# Altium integrated library NSC Interface MOSFET Driver.IntLib: 14 symbols
Pins are listed as number, name and electrical type; pins without a type are passive.

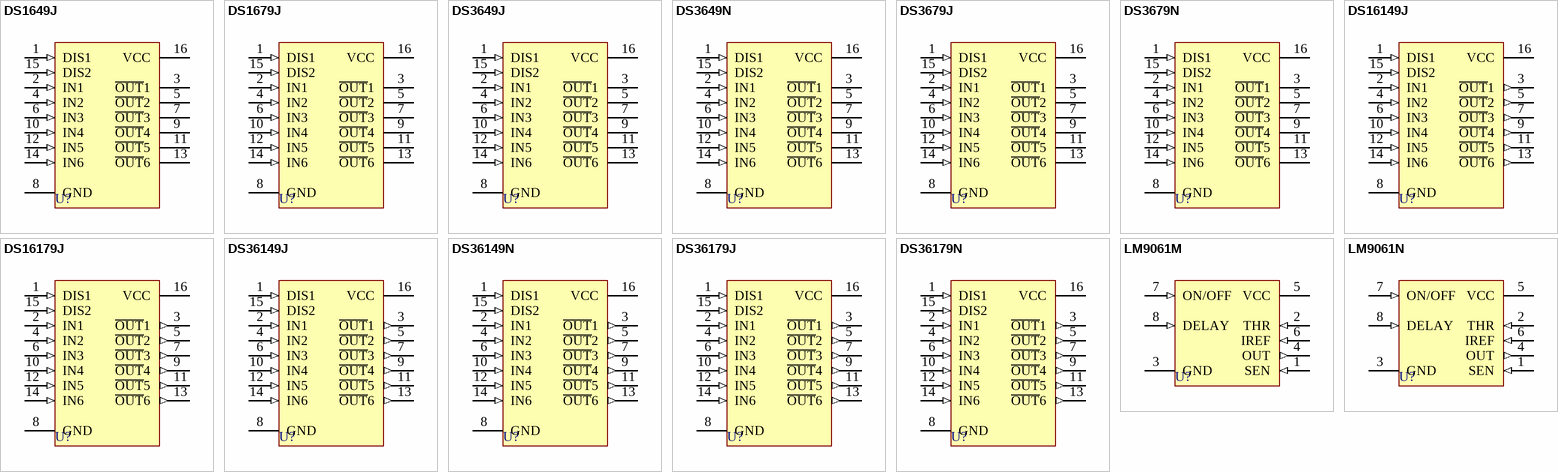
[diagram p0: symbols DS1649J to LM9061N]

## DS1649J
designator U?
Hex Tri-State TTL to MOS Driver; Published: 15-Apr-2002; LatestRevisionDate: 06-Jun-2005; LatestRevisionNote: Stylized 3D Model Added.; DatasheetVersion: Mar-1986; PackageVersion: 2000; PackageReference: J16A; Publisher: Altium Limited; PackageDescription: DIP; 16 Leads; Row Spacing 7.62 mm; Pitch 2.54 mm; ComponentLink1Description: Manufacturer Link; ComponentLink1URL: http://www.national.com/; ComponentLink2Description: Datasheet; ComponentLink2URL: http://www.national.com/ds.cgi/DS/DS1649.pdf; ComponentLink3Description: URL Link1; ComponentLink3URL: http://www.national.com/pf/DS/DS1649.html
footprint J16A (DIP; 16 Leads; Row Spacing 7.62 mm; Pitch 2.54 mm)
3D model J16A (DIP; 16 Leads; Row Spacing 7.62 mm; Pitch 2.54 mm)
pins: 1 DIS1 (in), 2 IN1 (in), 3 ~{OUT}1 (hiz), 4 IN2 (in), 5 ~{OUT}2 (hiz), 6 IN3 (in), 7 ~{OUT}3 (hiz), 8 GND (power), 9 ~{OUT}4 (hiz), 10 IN4 (in), 11 ~{OUT}5 (hiz), 12 IN5 (in), 13 ~{OUT}6 (hiz), 14 IN6 (in), 15 DIS2 (in), 16 VCC (power)

## DS1679J
designator U?
Hex Tri-State TTL to MOS Driver; Published: 15-Apr-2002; LatestRevisionDate: 06-Jun-2005; LatestRevisionNote: Stylized 3D Model Added.; DatasheetVersion: Mar-1986; PackageVersion: 2000; PackageReference: J16A; Publisher: Altium Limited; PackageDescription: DIP; 16 Leads; Row Spacing 7.62 mm; Pitch 2.54 mm; ComponentLink1Description: Manufacturer Link; ComponentLink1URL: http://www.national.com/; ComponentLink2Description: Datasheet; ComponentLink2URL: http://www.national.com/ds.cgi/DS/DS1649.pdf; ComponentLink3Description: URL Link1; ComponentLink3URL: http://www.national.com/pf/DS/DS1679.html
footprint J16A (DIP; 16 Leads; Row Spacing 7.62 mm; Pitch 2.54 mm)
3D model J16A (DIP; 16 Leads; Row Spacing 7.62 mm; Pitch 2.54 mm)
pins: 1 DIS1 (in), 2 IN1 (in), 3 ~{OUT}1 (hiz), 4 IN2 (in), 5 ~{OUT}2 (hiz), 6 IN3 (in), 7 ~{OUT}3 (hiz), 8 GND (power), 9 ~{OUT}4 (hiz), 10 IN4 (in), 11 ~{OUT}5 (hiz), 12 IN5 (in), 13 ~{OUT}6 (hiz), 14 IN6 (in), 15 DIS2 (in), 16 VCC (power)

## DS3649J
designator U?
Hex Tri-State TTL to MOS Driver; Published: 15-Apr-2002; LatestRevisionDate: 06-Jun-2005; LatestRevisionNote: Stylized 3D Model Added.; DatasheetVersion: Mar-1986; PackageVersion: 2000; PackageReference: J16A; Publisher: Altium Limited; PackageDescription: DIP; 16 Leads; Row Spacing 7.62 mm; Pitch 2.54 mm; ComponentLink1Description: Manufacturer Link; ComponentLink1URL: http://www.national.com/; ComponentLink2Description: Datasheet; ComponentLink2URL: http://www.national.com/ds.cgi/DS/DS1649.pdf; ComponentLink3Description: URL Link1; ComponentLink3URL: http://www.national.com/pf/DS/DS3649.html
footprint J16A (DIP; 16 Leads; Row Spacing 7.62 mm; Pitch 2.54 mm)
3D model J16A (DIP; 16 Leads; Row Spacing 7.62 mm; Pitch 2.54 mm)
pins: 1 DIS1 (in), 2 IN1 (in), 3 ~{OUT}1 (hiz), 4 IN2 (in), 5 ~{OUT}2 (hiz), 6 IN3 (in), 7 ~{OUT}3 (hiz), 8 GND (power), 9 ~{OUT}4 (hiz), 10 IN4 (in), 11 ~{OUT}5 (hiz), 12 IN5 (in), 13 ~{OUT}6 (hiz), 14 IN6 (in), 15 DIS2 (in), 16 VCC (power)

## DS3649N
designator U?
Hex Tri-State TTL to MOS Driver; Published: 15-Apr-2002; LatestRevisionDate: 06-Jun-2005; LatestRevisionNote: Stylized 3D Model Added.; DatasheetVersion: Mar-1986; PackageVersion: 2000; PackageReference: N16A; Publisher: Altium Limited; PackageDescription: DIP; 16 Leads; Row Spacing 7.62 mm; Pitch 2.54 mm; ComponentLink1Description: Manufacturer Link; ComponentLink1URL: http://www.national.com/; ComponentLink2Description: Datasheet; ComponentLink2URL: http://www.national.com/ds.cgi/DS/DS1649.pdf; ComponentLink3Description: URL Link1; ComponentLink3URL: http://www.national.com/pf/DS/DS3649.html
footprint N16A (DIP; 16 Leads; Row Spacing 7.62 mm; Pitch 2.54 mm)
3D model N16A (DIP; 16 Leads; Row Spacing 7.62 mm; Pitch 2.54 mm)
pins: 1 DIS1 (in), 2 IN1 (in), 3 ~{OUT}1 (hiz), 4 IN2 (in), 5 ~{OUT}2 (hiz), 6 IN3 (in), 7 ~{OUT}3 (hiz), 8 GND (power), 9 ~{OUT}4 (hiz), 10 IN4 (in), 11 ~{OUT}5 (hiz), 12 IN5 (in), 13 ~{OUT}6 (hiz), 14 IN6 (in), 15 DIS2 (in), 16 VCC (power)

## DS3679J
designator U?
Hex Tri-State TTL to MOS Driver; Published: 15-Apr-2002; LatestRevisionDate: 06-Jun-2005; LatestRevisionNote: Stylized 3D Model Added.; DatasheetVersion: Mar-1986; PackageVersion: 2000; PackageReference: J16A; Publisher: Altium Limited; PackageDescription: DIP; 16 Leads; Row Spacing 7.62 mm; Pitch 2.54 mm; ComponentLink1Description: Manufacturer Link; ComponentLink1URL: http://www.national.com/; ComponentLink2Description: Datasheet; ComponentLink2URL: http://www.national.com/ds.cgi/DS/DS1649.pdf; ComponentLink3Description: URL Link1; ComponentLink3URL: http://www.national.com/pf/DS/DS3679.html
footprint J16A (DIP; 16 Leads; Row Spacing 7.62 mm; Pitch 2.54 mm)
3D model J16A (DIP; 16 Leads; Row Spacing 7.62 mm; Pitch 2.54 mm)
pins: 1 DIS1 (in), 2 IN1 (in), 3 ~{OUT}1 (hiz), 4 IN2 (in), 5 ~{OUT}2 (hiz), 6 IN3 (in), 7 ~{OUT}3 (hiz), 8 GND (power), 9 ~{OUT}4 (hiz), 10 IN4 (in), 11 ~{OUT}5 (hiz), 12 IN5 (in), 13 ~{OUT}6 (hiz), 14 IN6 (in), 15 DIS2 (in), 16 VCC (power)

## DS3679N
designator U?
Hex Tri-State TTL to MOS Driver; Published: 15-Apr-2002; LatestRevisionDate: 06-Jun-2005; LatestRevisionNote: Stylized 3D Model Added.; DatasheetVersion: Mar-1986; PackageVersion: 2000; PackageReference: N16A; Publisher: Altium Limited; PackageDescription: DIP; 16 Leads; Row Spacing 7.62 mm; Pitch 2.54 mm; ComponentLink1Description: Manufacturer Link; ComponentLink1URL: http://www.national.com/; ComponentLink2Description: Datasheet; ComponentLink2URL: http://www.national.com/ds.cgi/DS/DS1649.pdf; ComponentLink3Description: URL Link1; ComponentLink3URL: http://www.national.com/pf/DS/DS3679.html
footprint N16A (DIP; 16 Leads; Row Spacing 7.62 mm; Pitch 2.54 mm)
3D model N16A (DIP; 16 Leads; Row Spacing 7.62 mm; Pitch 2.54 mm)
pins: 1 DIS1 (in), 2 IN1 (in), 3 ~{OUT}1 (hiz), 4 IN2 (in), 5 ~{OUT}2 (hiz), 6 IN3 (in), 7 ~{OUT}3 (hiz), 8 GND (power), 9 ~{OUT}4 (hiz), 10 IN4 (in), 11 ~{OUT}5 (hiz), 12 IN5 (in), 13 ~{OUT}6 (hiz), 14 IN6 (in), 15 DIS2 (in), 16 VCC (power)

## DS16149J
designator U?
Hex MOS Driver; Published: 15-Apr-2002; LatestRevisionDate: 06-Jun-2005; LatestRevisionNote: Stylized 3D Model Added.; DatasheetVersion: Feb-1986; PackageVersion: 2000; PackageReference: J16A; Publisher: Altium Limited; PackageDescription: DIP; 16 Leads; Row Spacing 7.62 mm; Pitch 2.54 mm; ComponentLink1Description: Manufacturer Link; ComponentLink1URL: http://www.national.com/; ComponentLink2Description: Datasheet; ComponentLink2URL: http://www.national.com/ds.cgi/DS/DS16149.pdf; ComponentLink3Description: URL Link1; ComponentLink3URL: http://www.national.com/pf/DS/DS16149.html
footprint J16A (DIP; 16 Leads; Row Spacing 7.62 mm; Pitch 2.54 mm)
3D model J16A (DIP; 16 Leads; Row Spacing 7.62 mm; Pitch 2.54 mm)
pins: 1 DIS1 (in), 2 IN1 (in), 3 ~{OUT}1 (out), 4 IN2 (in), 5 ~{OUT}2 (out), 6 IN3 (in), 7 ~{OUT}3 (out), 8 GND (power), 9 ~{OUT}4 (out), 10 IN4 (in), 11 ~{OUT}5 (out), 12 IN5 (in), 13 ~{OUT}6 (out), 14 IN6 (in), 15 DIS2 (in), 16 VCC (power)

## DS16179J
designator U?
Hex MOS Driver; Published: 15-Apr-2002; LatestRevisionDate: 06-Jun-2005; LatestRevisionNote: Stylized 3D Model Added.; DatasheetVersion: Feb-1986; PackageVersion: 2000; PackageReference: J16A; Publisher: Altium Limited; PackageDescription: DIP; 16 Leads; Row Spacing 7.62 mm; Pitch 2.54 mm; ComponentLink1Description: Manufacturer Link; ComponentLink1URL: http://www.national.com/; ComponentLink2Description: Datasheet; ComponentLink2URL: http://www.national.com/ds.cgi/DS/DS16149.pdf; ComponentLink3Description: URL Link1; ComponentLink3URL: http://www.national.com/pf/DS/DS16179.html
footprint J16A (DIP; 16 Leads; Row Spacing 7.62 mm; Pitch 2.54 mm)
3D model J16A (DIP; 16 Leads; Row Spacing 7.62 mm; Pitch 2.54 mm)
pins: 1 DIS1 (in), 2 IN1 (in), 3 ~{OUT}1 (out), 4 IN2 (in), 5 ~{OUT}2 (out), 6 IN3 (in), 7 ~{OUT}3 (out), 8 GND (power), 9 ~{OUT}4 (out), 10 IN4 (in), 11 ~{OUT}5 (out), 12 IN5 (in), 13 ~{OUT}6 (out), 14 IN6 (in), 15 DIS2 (in), 16 VCC (power)

## DS36149J
designator U?
Hex MOS Driver; Published: 15-Apr-2002; LatestRevisionDate: 06-Jun-2005; LatestRevisionNote: Stylized 3D Model Added.; DatasheetVersion: Feb-1986; PackageVersion: 2000; PackageReference: J16A; Publisher: Altium Limited; PackageDescription: DIP; 16 Leads; Row Spacing 7.62 mm; Pitch 2.54 mm; ComponentLink1Description: Manufacturer Link; ComponentLink1URL: http://www.national.com/; ComponentLink2Description: Datasheet; ComponentLink2URL: http://www.national.com/ds.cgi/DS/DS16149.pdf; ComponentLink3Description: URL Link1; ComponentLink3URL: http://www.national.com/pf/DS/DS36149.html
footprint J16A (DIP; 16 Leads; Row Spacing 7.62 mm; Pitch 2.54 mm)
3D model J16A (DIP; 16 Leads; Row Spacing 7.62 mm; Pitch 2.54 mm)
pins: 1 DIS1 (in), 2 IN1 (in), 3 ~{OUT}1 (out), 4 IN2 (in), 5 ~{OUT}2 (out), 6 IN3 (in), 7 ~{OUT}3 (out), 8 GND (power), 9 ~{OUT}4 (out), 10 IN4 (in), 11 ~{OUT}5 (out), 12 IN5 (in), 13 ~{OUT}6 (out), 14 IN6 (in), 15 DIS2 (in), 16 VCC (power)

## DS36149N
designator U?
Hex MOS Driver; Published: 15-Apr-2002; LatestRevisionDate: 06-Jun-2005; LatestRevisionNote: Stylized 3D Model Added.; DatasheetVersion: Feb-1986; PackageVersion: 2000; PackageReference: N16A; Publisher: Altium Limited; PackageDescription: DIP; 16 Leads; Row Spacing 7.62 mm; Pitch 2.54 mm; ComponentLink1Description: Manufacturer Link; ComponentLink1URL: http://www.national.com/; ComponentLink2Description: Datasheet; ComponentLink2URL: http://www.national.com/ds.cgi/DS/DS16149.pdf; ComponentLink3Description: URL Link1; ComponentLink3URL: http://www.national.com/pf/DS/DS36149.html
footprint N16A (DIP; 16 Leads; Row Spacing 7.62 mm; Pitch 2.54 mm)
3D model N16A (DIP; 16 Leads; Row Spacing 7.62 mm; Pitch 2.54 mm)
pins: 1 DIS1 (in), 2 IN1 (in), 3 ~{OUT}1 (out), 4 IN2 (in), 5 ~{OUT}2 (out), 6 IN3 (in), 7 ~{OUT}3 (out), 8 GND (power), 9 ~{OUT}4 (out), 10 IN4 (in), 11 ~{OUT}5 (out), 12 IN5 (in), 13 ~{OUT}6 (out), 14 IN6 (in), 15 DIS2 (in), 16 VCC (power)

## DS36179J
designator U?
Hex MOS Driver; Published: 15-Apr-2002; LatestRevisionDate: 06-Jun-2005; LatestRevisionNote: Stylized 3D Model Added.; DatasheetVersion: Feb-1986; PackageVersion: 2000; PackageReference: J16A; Publisher: Altium Limited; PackageDescription: DIP; 16 Leads; Row Spacing 7.62 mm; Pitch 2.54 mm; ComponentLink1Description: Manufacturer Link; ComponentLink1URL: http://www.national.com/; ComponentLink2Description: Datasheet; ComponentLink2URL: http://www.national.com/ds.cgi/DS/DS16149.pdf; ComponentLink3Description: URL Link1; ComponentLink3URL: http://www.national.com/pf/DS/DS36179.html
footprint J16A (DIP; 16 Leads; Row Spacing 7.62 mm; Pitch 2.54 mm)
3D model J16A (DIP; 16 Leads; Row Spacing 7.62 mm; Pitch 2.54 mm)
pins: 1 DIS1 (in), 2 IN1 (in), 3 ~{OUT}1 (out), 4 IN2 (in), 5 ~{OUT}2 (out), 6 IN3 (in), 7 ~{OUT}3 (out), 8 GND (power), 9 ~{OUT}4 (out), 10 IN4 (in), 11 ~{OUT}5 (out), 12 IN5 (in), 13 ~{OUT}6 (out), 14 IN6 (in), 15 DIS2 (in), 16 VCC (power)

## DS36179N
designator U?
Hex MOS Driver; Published: 15-Apr-2002; LatestRevisionDate: 06-Jun-2005; LatestRevisionNote: Stylized 3D Model Added.; DatasheetVersion: Feb-1986; PackageVersion: 2000; PackageReference: N16A; Publisher: Altium Limited; PackageDescription: DIP; 16 Leads; Row Spacing 7.62 mm; Pitch 2.54 mm; ComponentLink1Description: Manufacturer Link; ComponentLink1URL: http://www.national.com/; ComponentLink2Description: Datasheet; ComponentLink2URL: http://www.national.com/ds.cgi/DS/DS16149.pdf; ComponentLink3Description: URL Link1; ComponentLink3URL: http://www.national.com/pf/DS/DS36179.html
footprint N16A (DIP; 16 Leads; Row Spacing 7.62 mm; Pitch 2.54 mm)
3D model N16A (DIP; 16 Leads; Row Spacing 7.62 mm; Pitch 2.54 mm)
pins: 1 DIS1 (in), 2 IN1 (in), 3 ~{OUT}1 (out), 4 IN2 (in), 5 ~{OUT}2 (out), 6 IN3 (in), 7 ~{OUT}3 (out), 8 GND (power), 9 ~{OUT}4 (out), 10 IN4 (in), 11 ~{OUT}5 (out), 12 IN5 (in), 13 ~{OUT}6 (out), 14 IN6 (in), 15 DIS2 (in), 16 VCC (power)

## LM9061M
designator U?
Power MOSFET Driver with Lossless Protection; Published: 15-Apr-2002; LatestRevisionDate: 13-Apr-2006; LatestRevisionNote: IPC-7351 Footprint Added.; DatasheetVersion: Apr-1995; PackageVersion: Sep-1997; PackageReference: M08A; Publisher: Altium Limited; PackageDescription: 8-Pin Small Outline Integrated Circuit 1.27 mm Pitch; Code_JEDEC: MS-012-AA; Code_IPC: SOIC127P600-8; ComponentLink1Description: Manufacturer Link; ComponentLink1URL: http://www.national.com/; ComponentLink2Description: Datasheet; ComponentLink2URL: http://www.national.com/ds.cgi/LM/LM9061.pdf; ComponentLink3Description: URL Link1; ComponentLink3URL: http://www.national.com/pf/LM/LM9061.html
footprint M08A_N (SOIC, 8-Leads, Body 4.9x3.9mm, Pitch 1.27mm, IPC Medium Density)
footprint M08A_L (SOIC, 8-Leads, Body 4.9x3.9mm, Pitch 1.27mm, IPC High Density)
footprint M08A_M (SOIC, 8-Leads, Body 4.9x3.9mm, Pitch 1.27mm, IPC Low Density)
3D model M08A (8-Pin Small Outline Integrated Circuit 1.27 mm Pitch)
pins: 1 SEN (in), 2 THR (in), 3 GND (power), 4 OUT (out), 5 VCC (power), 6 IREF (in), 7 ON/OFF (in), 8 DELAY (in)

## LM9061N
designator U?
Power MOSFET Driver with Lossless Protection; Published: 15-Apr-2002; LatestRevisionDate: 06-Jun-2005; LatestRevisionNote: Stylized 3D Model Added.; DatasheetVersion: Apr-1995; PackageVersion: Sep-1997; PackageReference: N08E; Publisher: Altium Limited; PackageDescription: DIP; 8 Leads; Row Spacing 7.62 mm; Pitch 2.54 mm; ComponentLink1Description: Manufacturer Link; ComponentLink1URL: http://www.national.com/; ComponentLink2Description: Datasheet; ComponentLink2URL: http://www.national.com/ds.cgi/LM/LM9061.pdf; ComponentLink3Description: URL Link1; ComponentLink3URL: http://www.national.com/pf/LM/LM9061.html
footprint N08E (DIP; 8 Leads; Row Spacing 7.62 mm; Pitch 2.54 mm)
3D model N08E (DIP; 8 Leads; Row Spacing 7.62 mm; Pitch 2.54 mm)
pins: 1 SEN (in), 2 THR (in), 3 GND (power), 4 OUT (out), 5 VCC (power), 6 IREF (in), 7 ON/OFF (in), 8 DELAY (in)